# Altium schematic symbol library SCH - POWER - LINEAR VREG - TI LP2985AI-2P9DBV.SchLib: 1 symbol
Pins are listed as number, name and electrical type; pins without a type are passive.

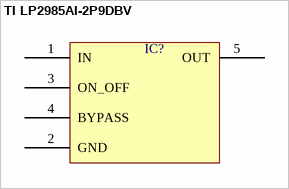
[diagram p0: symbol TI LP2985AI-2P9DBV]

## TI LP2985AI-2P9DBV
designator IC?  (value not drawn)
pins: 1 IN, 2 GND, 3 ON_OFF, 4 BYPASS, 5 OUT